# Altium schematic symbol library Common.SchLib: 15 symbols
Pins are listed as number, name and electrical type; pins without a type are passive.

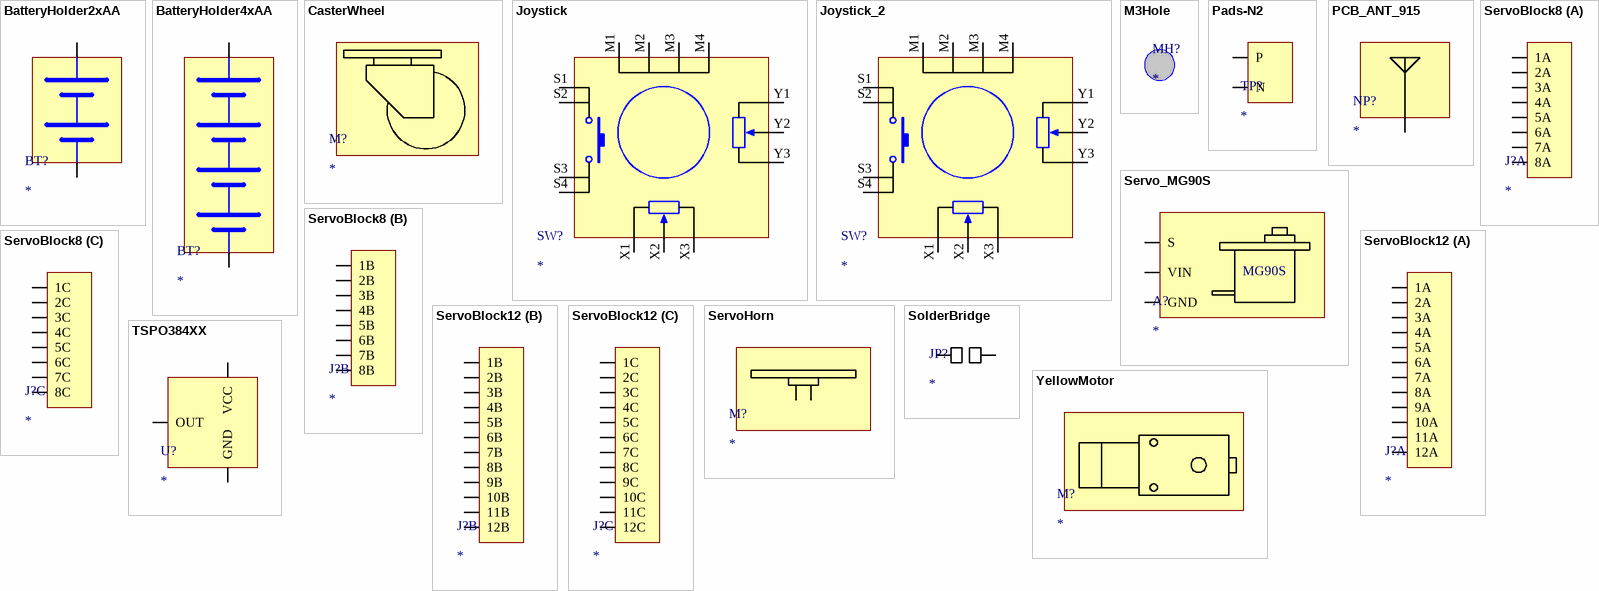
[diagram p0: symbols BatteryHolder2xAA to YellowMotor]

## BatteryHolder2xAA
designator BT?
footprint BATTERY_HOLDER_2AA
pins: 1 +, 2 -

## BatteryHolder4xAA
designator BT?
footprint BATTERY_HOLDER_2AA
footprint BATTERY_HOLDER_4AA
pins: 1 +, 2 -

## CasterWheel
designator M?
footprint PADS-N2
footprint YELLOW_MOTOR
footprint CASTER_WHEEL

## Joystick
designator SW?
footprint Joystick
pins: M1, M2, M3, M4, S1, S2, S3, S4, X1, X2, X3, Y1, Y2, Y3

## Joystick_2
designator SW?
footprint Joystick
footprint Joystick2
pins: M1, M2, M3, M4, S1, S2, S3, S4, X1, X2, X3, Y1, Y2, Y3

## M3Hole
designator MH?
footprint HOLE_M3

## Pads-N2
designator TP?
footprint PADS-N2
pins: 1 N, 2 P

## PCB_ANT_915
designator NP?
footprint SolderBridge
footprint ANT_PCB_915
pins: 1 ANT

## Servo_MG90S
designator A?
footprint SERVO_MG90S
pins: 1 GND, 2 VIN, 3 S
text: MG90S

## ServoBlock8
designator J?
footprint ServoBlock8
part A pins: 1A, 2A, 3A, 4A, 5A, 6A, 7A, 8A
part B pins: 1B, 2B, 3B, 4B, 5B, 6B, 7B, 8B
part C pins: 1C, 2C, 3C, 4C, 5C, 6C, 7C, 8C

## ServoBlock12
designator J?
footprint ServoBlock12
part A pins: 1A, 2A, 3A, 4A, 5A, 6A, 7A, 8A, 9A, 10A, 11A, 12A
part B pins: 1B, 2B, 3B, 4B, 5B, 6B, 7B, 8B, 9B, 10B, 11B, 12B
part C pins: 1C, 2C, 3C, 4C, 5C, 6C, 7C, 8C, 9C, 10C, 11C, 12C

## ServoHorn
designator M?
footprint PADS-N2
footprint YELLOW_MOTOR
footprint CASTER_WHEEL
footprint SERVO_HORN

## SolderBridge
designator JP?
footprint SolderBridge
pins: 1, 2

## TSPO384XX
designator U?
footprint SolderBridge
footprint ANT_PCB_915
footprint VISHAY_TSOP_
pins: 1 OUT, 2 GND, 3 VCC

## YellowMotor
designator M?
footprint PADS-N2
footprint YELLOW_MOTOR